# Altium footprint library LED_SMD.PcbLib: 91 footprints (part 2 of 6)
Each footprint in its own frame and in the unit in brackets; x right, y up, seen from the top. Pads: shape width x height; smd on the part's side, far side on the other; paste and mask are expansions set on the pad; w line width, h text height; cw(c..) or ccw(c..) is an arc to the next point about the centre after c.
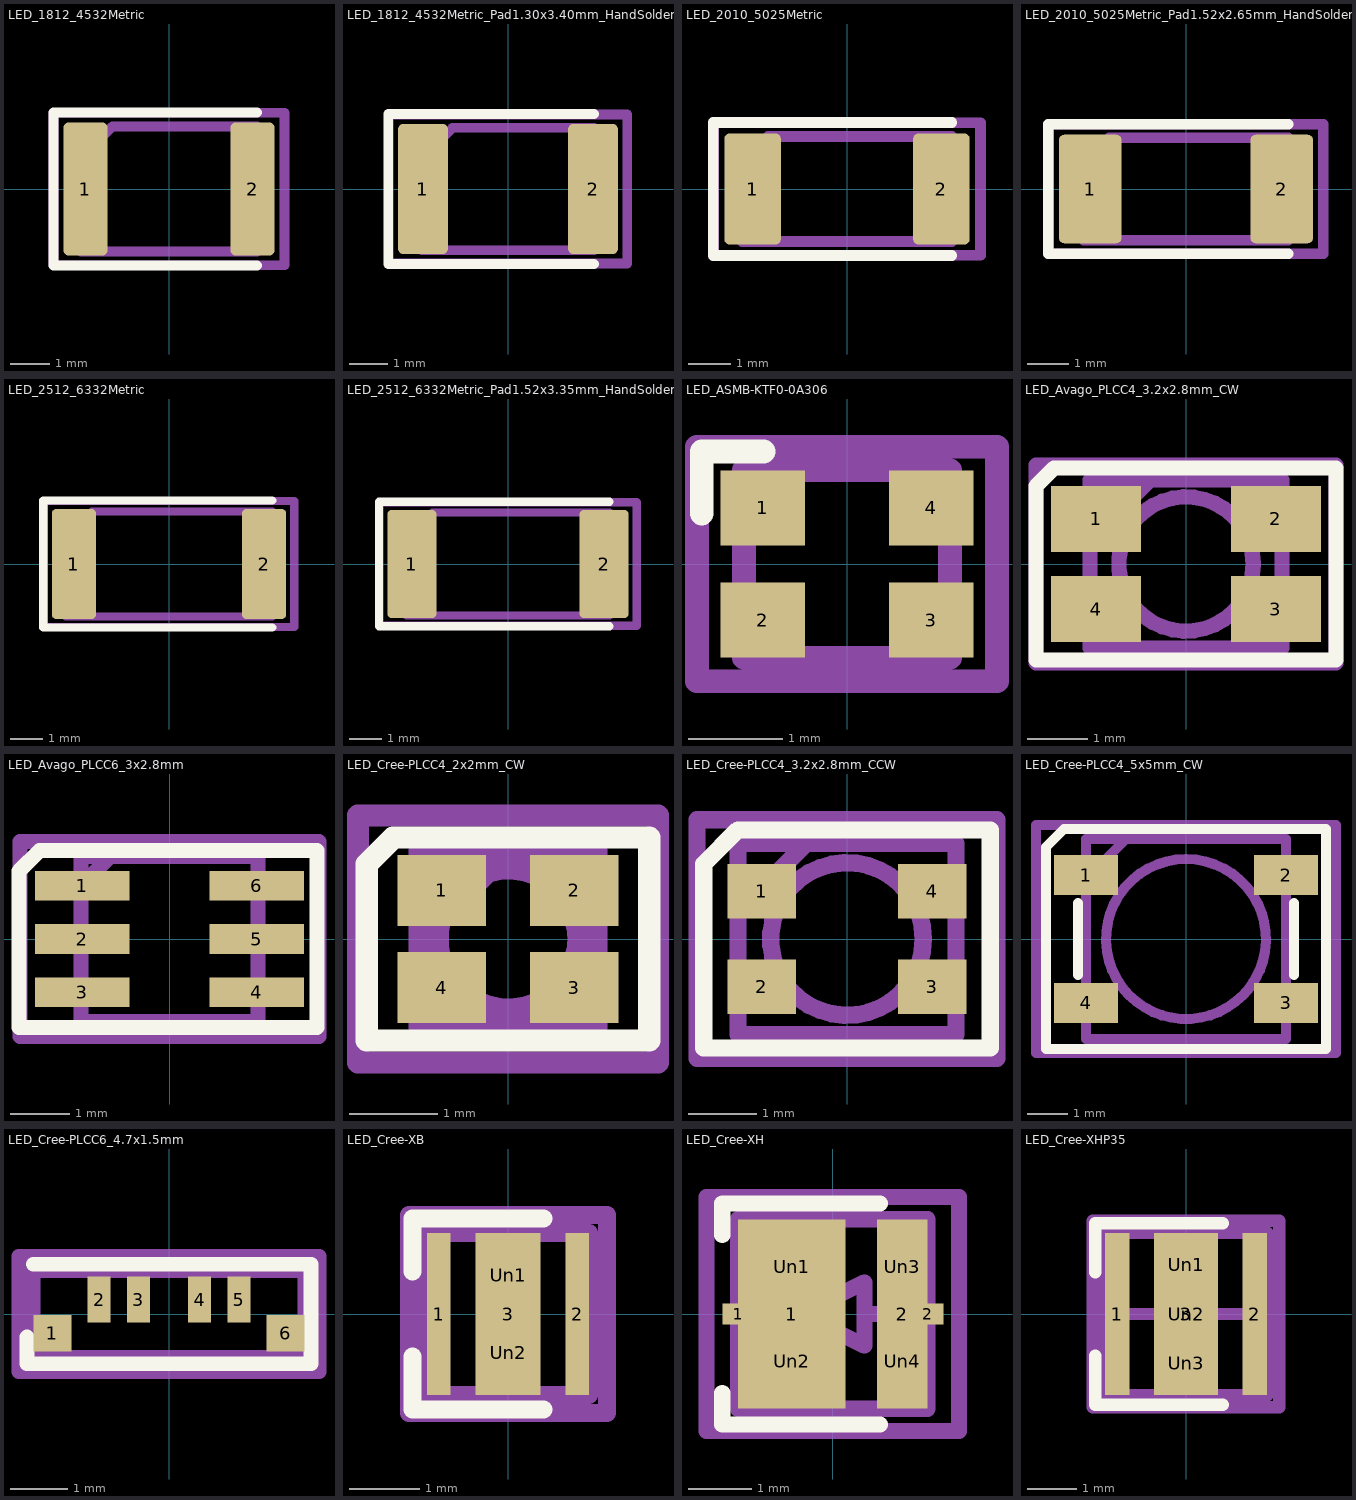
[diagram p1: the footprints below, top view; thin cyan lines are the x and y axes]

## LED_1812_4532Metric [mm]
pads (2):
  rrect22% 1.125x3.4 smd: 1(-2.137,0) 2(2.137,0)
F.SilkS:
  lines w0.254: 2.25,-1.96 -2.96,-1.96 -2.96,1.96 2.25,1.96
F.CrtYd:
  lines w0.254: -2.95,-1.95 -2.95,1.95 2.95,1.95 2.95,-1.95 -2.95,-1.95
F.Fab:
  lines w0.254: -2.25,-1.6 -2.25,0.8 -1.45,1.6 2.25,1.6 2.25,-1.6 -2.25,-1.6
  text "'.Designator'" at -1.439,-0.398 h1

## LED_1812_4532Metric_Pad1.30x3.40mm_HandSolder [mm]
pads (2):
  rrect19% 1.3x3.4 smd: 1(-2.225,0) 2(2.225,0)
F.SilkS:
  lines w0.254: 2.25,-1.96 -3.135,-1.96 -3.135,1.96 2.25,1.96
F.CrtYd:
  lines w0.254: -3.12,-1.95 -3.12,1.95 3.12,1.95 3.12,-1.95 -3.12,-1.95
F.Fab:
  lines w0.254: -2.25,-1.6 -2.25,0.8 -1.45,1.6 2.25,1.6 2.25,-1.6 -2.25,-1.6
  text "'.Designator'" at -1.439,-0.398 h1

## LED_2010_5025Metric [mm]
pads (2):
  rrect19% 1.35x2.65 smd: 1(-2.25,0) 2(2.25,0)
F.SilkS:
  lines w0.254: 2.5,-1.585 -3.185,-1.585 -3.185,1.585 2.5,1.585
F.CrtYd:
  lines w0.254: -3.18,-1.58 -3.18,1.58 3.18,1.58 3.18,-1.58 -3.18,-1.58
F.Fab:
  lines w0.254: -2.5,-1.25 -2.5,0.625 -1.875,1.25 2.5,1.25 2.5,-1.25 -2.5,-1.25
  text "'.Designator'" at -1.439,-0.398 h1

## LED_2010_5025Metric_Pad1.52x2.65mm_HandSolder [mm]
pads (2):
  rrect16% 1.525x2.65 smd: 1(-2.338,0) 2(2.338,0)
F.SilkS:
  lines w0.254: 2.5,-1.585 -3.36,-1.585 -3.36,1.585 2.5,1.585
F.CrtYd:
  lines w0.254: -3.35,-1.58 -3.35,1.58 3.35,1.58 3.35,-1.58 -3.35,-1.58
F.Fab:
  lines w0.254: -2.5,-1.25 -2.5,0.625 -1.875,1.25 2.5,1.25 2.5,-1.25 -2.5,-1.25
  text "'.Designator'" at -1.439,-0.398 h1

## LED_2512_6332Metric [mm]
pads (2):
  rrect19% 1.35x3.35 smd: 1(-2.9,0) 2(2.9,0)
F.SilkS:
  lines w0.254: 3.15,-1.935 -3.835,-1.935 -3.835,1.935 3.15,1.935
F.CrtYd:
  lines w0.254: -3.82,-1.92 -3.82,1.92 3.82,1.92 3.82,-1.92 -3.82,-1.92
F.Fab:
  lines w0.254: -3.15,-1.6 -3.15,0.8 -2.35,1.6 3.15,1.6 3.15,-1.6 -3.15,-1.6
  text "'.Designator'" at -1.439,-0.398 h1

## LED_2512_6332Metric_Pad1.52x3.35mm_HandSolder [mm]
pads (2):
  rrect16% 1.525x3.35 smd: 1(-2.987,0) 2(2.987,0)
F.SilkS:
  lines w0.254: 3.15,-1.935 -4.01,-1.935 -4.01,1.935 3.15,1.935
F.CrtYd:
  lines w0.254: -4,-1.92 -4,1.92 4,1.92 4,-1.92 -4,-1.92
F.Fab:
  lines w0.254: -3.15,-1.6 -3.15,0.8 -2.35,1.6 3.15,1.6 3.15,-1.6 -3.15,-1.6
  text "'.Designator'" at -1.439,-0.398 h1

## LED_ASMB-KTF0-0A306 [mm]
pads (4):
  rect 0.9x0.8 smd: 1(-0.9,0.6) 2(-0.9,-0.6) 3(0.9,-0.6) 4(0.9,0.6)
F.SilkS:
  lines w0.254: -1.55,0.54 -1.55,1.2 -0.89,1.2
F.CrtYd:
  lines w0.254: -1.6,-1.25 -1.6,1.25 1.6,1.25 1.6,-1.25 -1.6,-1.25
F.Fab:
  lines w0.254: -1.1,0.5 -0.6,1 ; -1.1,-1 -1.1,1 1.1,1 1.1,-1 -1.1,-1
  text "'.Designator'" at -1.439,-2.648 h1

## LED_Avago_PLCC4_3.2x2.8mm_CW [mm]
pads (4):
  rect 1.5x1.1 smd: 1(-1.5,0.75) 2(1.5,0.75) 3(1.5,-0.75) 4(-1.5,-0.75)
F.SilkS:
  lines w0.254: -2.5,-1.6 -2.5,1.3 -2.2,1.6 2.5,1.6 2.5,-1.6 -2.5,-1.6
F.CrtYd:
  lines w0.254: -2.5,-1.65 -2.5,1.65 2.5,1.65 2.5,-1.65 -2.5,-1.65
F.Fab:
  circle w0.254: c0,0 r1.12
  lines w0.254: -1.6,0.4 -0.6,1.4 ; -1.6,-1.4 -1.6,1.4 1.6,1.4 1.6,-1.4 -1.6,-1.4
  text "'.Designator'" at -0.719,-0.199 h0.5

## LED_Avago_PLCC6_3x2.8mm [mm]
pads (6):
  rect 1.6x0.5 smd: 1(-1.475,0.9) 2(-1.475,0) 3(-1.475,-0.9) 4(1.475,-0.9) 5(1.475,0) 6(1.475,0.9)
F.SilkS:
  lines w0.254: -2.55,-1.5 -2.55,1.15 -2.2,1.5 2.5,1.5 2.5,-1.5 -2.55,-1.5
F.CrtYd:
  lines w0.254: -2.53,-1.65 -2.53,1.65 2.53,1.65 2.53,-1.65 -2.53,-1.65
F.Fab:
  lines w0.254: -1.5,0.9 -1,1.4 ; -1.5,-1.4 -1.5,1.4 1.5,1.4 1.5,-1.4 -1.5,-1.4
  text "'.Designator'" at -0.719,-0.199 h0.5

## LED_Cree-PLCC4_2x2mm_CW [mm]
pads (4):
  rect 1x0.8 smd: 1(-0.75,0.55) 2(0.75,0.55) 3(0.75,-0.55) 4(-0.75,-0.55)
F.SilkS:
  lines w0.254: -1.6,-1.15 -1.6,0.85 -1.3,1.15 1.6,1.15 1.6,-1.15 -1.6,-1.15
F.CrtYd:
  lines w0.254: -1.7,-1.4 -1.7,1.4 1.7,1.4 1.7,-1.4 -1.7,-1.4
F.Fab:
  circle w0.254: c0,0 r0.8
  lines w0.254: -1,0 0,1 ; -1,-1 -1,1 1,1 1,-1 -1,-1
  text "'.Designator'" at -0.719,-0.199 h0.5

## LED_Cree-PLCC4_3.2x2.8mm_CCW [mm]
pads (4):
  rect 1x0.8 smd: 1(-1.25,0.7) 2(-1.25,-0.7) 3(1.25,-0.7) 4(1.25,0.7)
F.SilkS:
  lines w0.254: -2.1,-1.6 -2.1,1.1 -1.6,1.6 2.1,1.6 2.1,-1.6 -2.1,-1.6
F.CrtYd:
  lines w0.254: -2.2,-1.75 -2.2,1.75 2.2,1.75 2.2,-1.75 -2.2,-1.75
F.Fab:
  circle w0.254: c0,0 r1.12
  lines w0.254: -1.6,0.4 -0.6,1.4 ; -1.6,-1.4 -1.6,1.4 1.6,1.4 1.6,-1.4 -1.6,-1.4
  text "'.Designator'" at -0.719,-0.199 h0.5

## LED_Cree-PLCC4_5x5mm_CW [mm]
pads (4):
  rect 1.6x1 smd: 1(-2.5,1.6) 2(2.5,1.6) 3(2.5,-1.6) 4(-2.5,-1.6)
F.SilkS:
  lines w0.254: -2.7,-0.9 -2.7,0.9 ; 2.7,-0.9 2.7,0.9 ; -3.5,-2.75 -3.5,2.3 -3.05,2.75 3.5,2.75 3.5,-2.75 -3.5,-2.75
F.CrtYd:
  lines w0.254: -3.75,-2.85 -3.75,2.85 3.75,2.85 3.75,-2.85 -3.75,-2.85
F.Fab:
  circle w0.254: c0,0 r2
  lines w0.254: -2.5,1.5 -1.5,2.5 ; -2.5,-2.5 -2.5,2.5 2.5,2.5 2.5,-2.5 -2.5,-2.5
  text "'.Designator'" at -1.439,-0.398 h1

## LED_Cree-PLCC6_4.7x1.5mm [mm]
pads (6):
  rect 0.66x0.63 smd: 1(-2.02,-0.335) 6(2.02,-0.335)
  rect 0.4x0.8 smd: 2(-1.21,0.25) 3(-0.53,0.25) 4(0.53,0.25) 5(1.21,0.25)
F.SilkS:
  lines w0.254: -2.46,-0.4 -2.46,-0.86 2.46,-0.86 2.46,0.86 -2.35,0.86
F.CrtYd:
  lines w0.254: -2.6,-1 -2.6,1 2.6,1 2.6,-1 -2.6,-1
F.Fab:
  lines w0.254: -2.35,-0.75 -2.35,0.75 2.35,0.75 2.35,-0.75 -2.35,-0.75
  text "'.Designator'" at -1.439,-2.198 h1

## LED_Cree-XB [mm]
pads (5):
  rect 0.33x2.29 smd: 1(-0.98,0) 2(0.98,0)
  rect 0.92x2.29 smd: 3(0,0)
  rect 0.85x0.85 on Top Paste: Un1(0,0.55) Un2(0,-0.55)
F.SilkS:
  lines w0.254: -1.35,-0.6 -1.35,-1.35 0.5,-1.35 ; -1.35,0.6 -1.35,1.35 0.5,1.35
F.CrtYd:
  lines w0.254: -1.4,-1.4 -1.4,1.4 1.4,1.4 1.4,-1.4 -1.4,-1.4
F.Fab:
  lines w0.254: -1.15,-1.15 -1.15,1.15 1.15,1.15 1.15,-1.15 -1.15,-1.15
  text "'.Designator'" at -0.719,-0.199 h0.5

## LED_Cree-XH [mm]
pads (8):
  rect 0.5x0.33 smd: 1(-1.5,0) 2(1.5,0)
  rect 1.7x3 smd: 1(-0.65,0)
  rect 0.8x3 smd: 2(1.1,0)
  rect 1.35x1.2 on Top Paste: Un1(-0.65,0.75) Un2(-0.65,-0.75)
  rect 0.7x1.2 on Top Paste: Un3(1.1,0.75) Un4(1.1,-0.75)
F.SilkS:
  lines w0.254: -1.75,-1.25 -1.75,-1.75 0.75,-1.75 ; -1.75,1.25 -1.75,1.75 0.75,1.75
F.CrtYd:
  lines w0.254: -2,-1.85 -2,1.85 2,1.85 2,-1.85 -2,-1.85
F.Fab:
  lines w0.254: -1,0 -0.5,0 ; -0.5,-0.5 -0.5,0.5 ; 0.5,0 1,0 ; -0.5,0 0.5,0.5 0.5,-0.5 -0.5,0 ; -1.5,-1.5 -1.5,1.5 1.5,1.5 1.5,-1.5 -1.5,-1.5
  text "'.Designator'" at -0.719,-0.199 h0.5

## LED_Cree-XHP35 [mm]
pads (6):
  rect 0.5x3.3 smd: 1(-1.4,0) 2(1.4,0)
  rect 1.3x3.3 smd: 3(0,0)
  rect 1.01x0.75 on Top Paste: Un1(0,1) Un2(0,0) Un3(0,-1)
F.SilkS:
  lines w0.254: -1.85,-0.85 -1.85,-1.85 0.75,-1.85 ; -1.85,0.85 -1.85,1.85 0.75,1.85
F.CrtYd:
  lines w0.254: -1.9,-1.9 -1.9,1.9 1.9,1.9 1.9,-1.9 -1.9,-1.9
F.Fab:
  lines w0.254: -1.25,0 -0.5,0 ; -0.5,-0.5 -0.5,0.5 ; 0.5,0 1.25,0 ; -0.5,0 0.5,0.5 0.5,-0.5 -0.5,0 ; -1.65,-1.65 -1.65,1.65 1.65,1.65 1.65,-1.65 -1.65,-1.65
  text "'.Designator'" at -1.15,-0.319 h0.8